# EAGLE library part 1X10 (library parts)
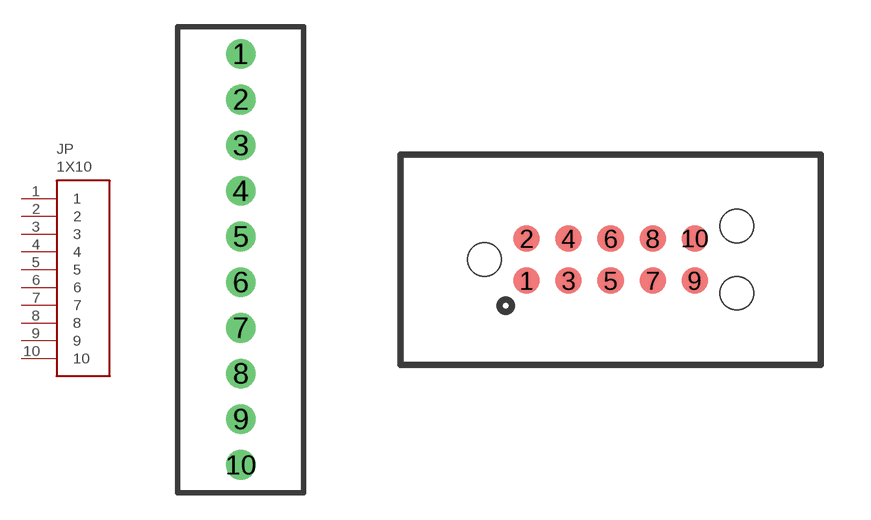
[diagram p7: symbol with the pads of TERMBLOCK-.1-10-1-282834-0; footprints TERMBLOCK-.1-10-1-282834-0, TC2050-IDC-NL]

Designator prefix JP

## 1X10  [TERMBLOCK-.1-10-1-282834-0]
1  1  pas
2  2  pas
3  3  pas
4  4  pas
5  5  pas
6  6  pas
7  7  pas
8  8  pas
9  9  pas
10  10  pas

## 1X10-TC2050-NL  [TC2050-IDC-NL]
Pads as for TERMBLOCK-.1-10-1-282834-0

## 1X10-TC2050  [TC2050-IDC]
Pads as for TERMBLOCK-.1-10-1-282834-0

## 1X10-5MM  [SCREW-TERM-5MM-10POS]
Pads as for TERMBLOCK-.1-10-1-282834-0

## Footprint TERMBLOCK-.1-10-1-282834-0 (pad centres in mm)
drill 1.1 round: 1 0,0; 2 0,-2.54; 3 0,-5.08; 4 0,-7.62; 5 0,-10.16; 6 0,-12.7; 7 0,-15.24; 8 0,-17.78; 9 0,-20.32; 10 0,-22.86

## Footprint TC2050-IDC-NL (pad centres in mm)
smd 0.8 x 0.8: 1 -2.54,-0.635; 2 -2.54,0.635; 3 -1.27,-0.635; 4 -1.27,0.635; 5 0,-0.635; 6 0,0.635; 7 1.27,-0.635; 8 1.27,0.635; 9 2.54,-0.635; 10 2.54,0.635
hole 1 at -3.81,0
hole 1 at 3.81,1.016
hole 1 at 3.81,-1.016

## Footprint TC2050-IDC (pad centres in mm)
smd 0.8 x 0.8: 1 -2.54,-0.635; 2 -2.54,0.635; 3 -1.27,-0.635; 4 -1.27,0.635; 5 0,-0.635; 6 0,0.635; 7 1.27,-0.635; 8 1.27,0.635; 9 2.54,-0.635; 10 2.54,0.635
hole 1 at -3.81,0
hole 1 at 3.81,1.016
hole 1 at 3.81,-1.016
hole 2.375 at -3.81,2.54
hole 2.375 at -3.81,-2.54
hole 2.375 at 1.905,2.54
hole 2.375 at 1.905,-2.54

## Footprint SCREW-TERM-5MM-10POS (pad centres in mm)
drill 1.3 round: 1 0,0; 2 0,5; 3 0,10; 4 0,15; 5 0,20; 6 0,25; 7 0,30; 8 0,35; 9 0,40; 10 0,45